# Altium schematic symbol library ISM330DHCXTR.SchLib: 2 symbols
Pins are listed as number, name and electrical type; pins without a type are passive.

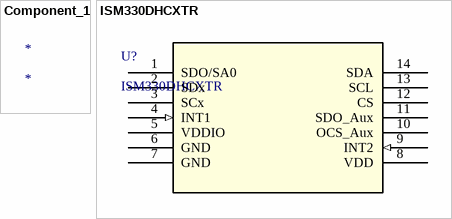
[diagram p0: symbols Component_1 to ISM330DHCXTR]

## Component_1
designator *

## ISM330DHCXTR
designator U?
No Description Available; Mfr_Name: STMicroelectronics; Copyright: Copyright (C) 2022 Ultra Librarian. All rights reserved.; Manufacturer_Part_Number: ISM330DHCXTR; Digi-Key_Part_Number_1: 497-19784-2-ND; Digi-Key_Part_Number_2: 497-19784-1-ND; Digi-Key_Part_Number_3: 497-19784-6-ND; RefDes: RefDes; Type: DEV
footprint QFN_DHCXTR_STM
pins: 1 SDO/SA0, 2 SDx, 3 SCx, 4 INT1 (in), 5 VDDIO (power), 6 GND, 7 GND, 8 VDD (power), 9 INT2 (in), 10 OCS_Aux, 11 SDO_Aux, 12 CS, 13 SCL, 14 SDA